# EAGLE library part 24AA64 (library IC)
Microchip 24AA64/24LC64 64K I^2C Serial EEPROM
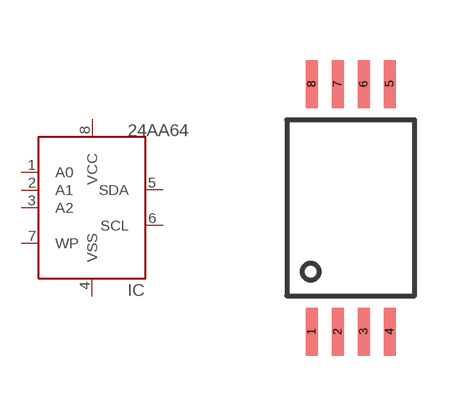
[diagram p44: symbol with the pads of TSSOP8; footprint TSSOP8]

Designator prefix IC

## 24AA64  [TSSOP8]
1  A0
2  A1
3  A2
4  VSS  pwr
5  SDA
6  SCL
7  WP
8  VCC  pwr

## Footprint TSSOP8 (pad centres in mm)
smd 0.3 x 1.2: 1 -0.975,-3.1; 2 -0.325,-3.1; 3 0.325,-3.1; 4 0.975,-3.1; 5 0.975,3.1; 6 0.325,3.1; 7 -0.325,3.1; 8 -0.975,3.1